# EAGLE library part LM4811 (library dooba)
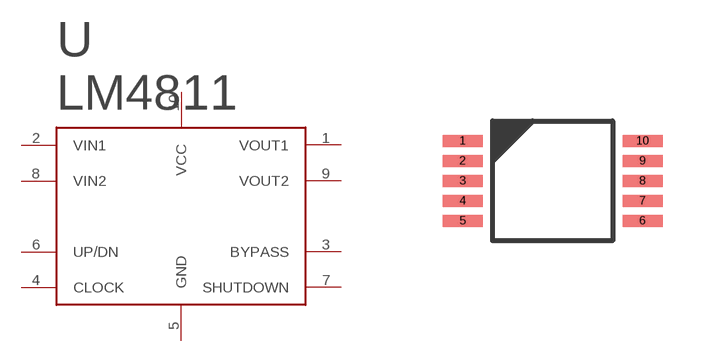
[diagram p22: symbol with the pads of PDSO-10; footprint PDSO-10]

Designator prefix U

## LM4811PDSO-10  [PDSO-10]
1  VOUT1
2  VIN1
3  BYPASS
4  CLOCK
5  GND
6  UP/DN
7  SHUTDOWN
8  VIN2
9  VOUT2
10  VCC

## Footprint PDSO-10 (pad centres in mm)
smd 1 x 0.3: 1 -2.25,1; 2 -2.25,0.5; 3 -2.25,0; 4 -2.25,-0.5; 5 -2.25,-1; 6 2.25,-1; 7 2.25,-0.5; 8 2.25,0; 9 2.25,0.5; 10 2.25,1